# Altium footprint library NetTie_1mm.PcbLib: 1 footprints
Each footprint in its own frame and in the unit in brackets; x right, y up, seen from the top. Pads: shape width x height; smd on the part's side, far side on the other; paste and mask are expansions set on the pad; w line width, h text height; cw(c..) or ccw(c..) is an arc to the next point about the centre after c.
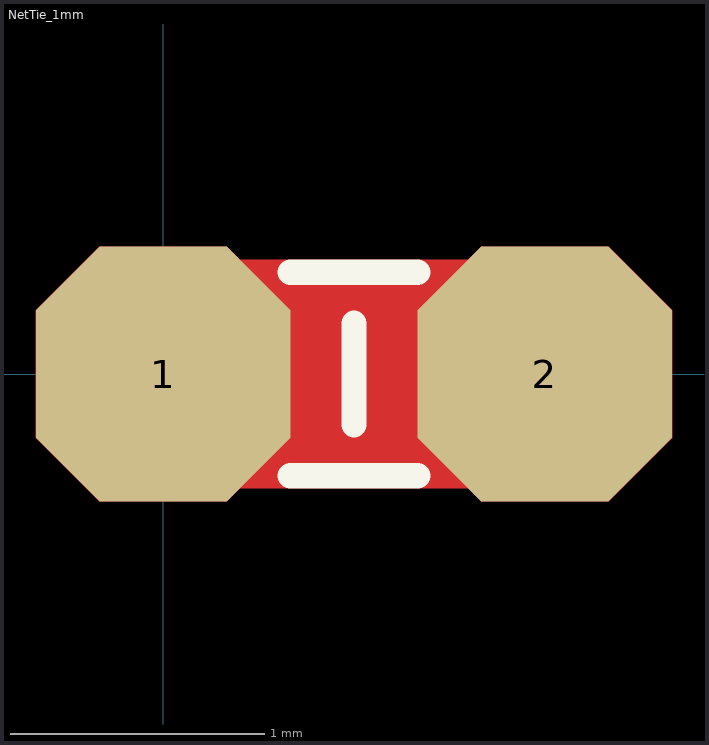
[diagram p0: the footprint, top view; thin cyan lines are the x and y axes]

## NetTie_1mm [mm]
pads (2):
  oct 1x1 smd: 1(0,0) 2(1.5,0)
Top Layer:
  region: 1,-0.25 1.25,-0.5 1.75,-0.5 2,-0.25 2,0.25 1.75,0.5 1.25,0.5 1,0.25
  region: -0.25,-0.5 -0.5,-0.25 -0.5,0.25 -0.25,0.5 0.25,0.5 0.5,0.25 0.5,-0.25 0.25,-0.5
  lines w0.9: 0,0 1.5,0
Top Overlay:
  lines w0.1: 0.5,-0.4 1,-0.4 ; 0.5,0.4 1,0.4 ; 0.75,-0.2 0.75,0.2